# Altium integrated library GPS_A2235H.IntLib: 1 symbol
Pins are listed as number, name and electrical type; pins without a type are passive.

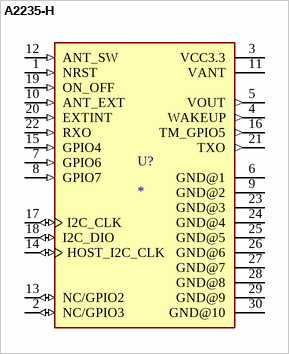
[diagram p0: symbol A2235-H]

## A2235-H
designator U?
GPS Modules PN CHANGE ORDER NEW PN: 515-A2235H; MP: A2235-H; MF: Lantronix; SnapEDA_Link: https://www.snapeda.com/parts/A2235-H/Lantronix/view-part/?ref=snap; Availability: Not in stock; Value: *; Price: None; Package: None; Check_prices: https://www.snapeda.com/parts/A2235-H/Lantronix/view-part/?ref=eda
footprint XCVR_A2235-H
pins: 1 NRST (in), 2 NC/GPIO3 (io), 3 VCC3.3 (power), 4 WAKEUP (out), 5 VOUT (out), 6 GND@1 (power), 7 GPIO6 (in), 8 GPIO7 (in), 9 GND@2 (power), 10 ANT_EXT (in), 11 VANT (power), 12 ANT_SW (in), 13 NC/GPIO2 (io), 14 HOST_I2C_CLK (io), 15 GPIO4 (in), 16 TM_GPIO5 (out), 17 I2C_CLK (io), 18 I2C_DIO (io), 19 ON_OFF (in), 20 EXTINT (in), 21 TXO (out), 22 RXO (in), 23 GND@3 (power), 24 GND@4 (power), 25 GND@5 (power), 26 GND@6 (power), 27 GND@7 (power), 28 GND@8 (power), 29 GND@9 (power), 30 GND@10 (power)